# Altium integrated library battery.IntLib: 62 symbols
Pins are listed as number, name and electrical type; pins without a type are passive.

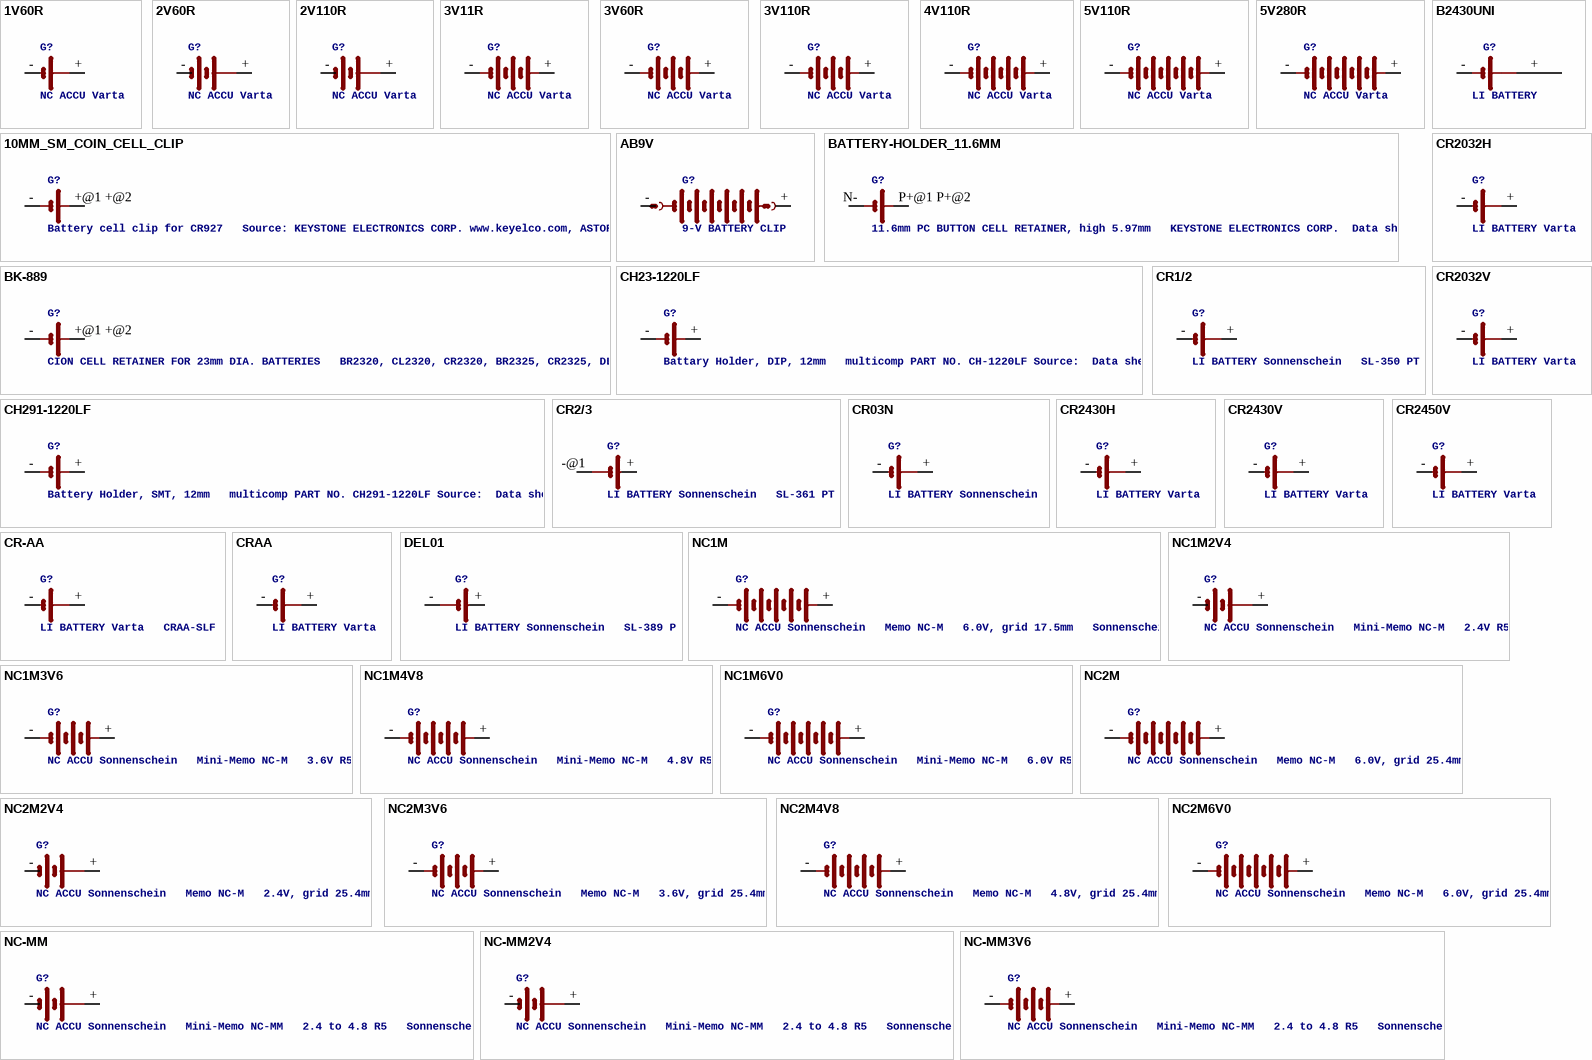
[diagram p0: symbols 1V60R to NC-MM3V6]

## 1V60R
designator G?, comment NC ACCU Varta
footprint 1V60R
pins: +, +@1, -

## 2V60R
designator G?, comment NC ACCU Varta
footprint 2V60R
pins: +, +@1, -

## 2V110R
designator G?, comment NC ACCU Varta
footprint 2V110R
pins: +, +@1, -

## 3V11R
designator G?, comment NC ACCU Varta
footprint 3V11R
pins: +, -

## 3V60R
designator G?, comment NC ACCU Varta
footprint 3V60R
pins: +, +@1, -

## 3V110R
designator G?, comment NC ACCU Varta
footprint 3V110R
pins: +, +@1, -

## 4V110R
designator G?, comment NC ACCU Varta
footprint 4V110R
pins: +, +@1, -

## 5V110R
designator G?, comment NC ACCU Varta
footprint 5V110R
pins: +, +@1, -

## 5V280R
designator G?, comment NC ACCU Varta
footprint 5V280R
pins: +, +@1, -

## 10MM_SM_COIN_CELL_CLIP
designator G?, comment Battery cell clip for CR927   Source: KEYSTONE ELECTRONICS CORP. www.keyelco.com, ASTORIA, N.Y. 11105-2017 PART ANME 10mm SM COIN CELl CLIP DWG NO. 3030
footprint 10MM_SM_COIN_CELL_CLIP
pins: +@1 +@2 +, -

## AB9V
designator G?, comment 9-V BATTERY CLIP
footprint AB9V
pins: +, -

## B2430UNI
designator G?, comment LI BATTERY
footprint B2430UNI
pins: +, +@1, +@2, +@3, +@4, -, -@1

## BATTERY-HOLDER_11.6MM
designator G?, comment 11.6mm PC BUTTON CELL RETAINER, high 5.97mm   KEYSTONE ELECTRONICS CORP.  Data sheet
MPN: 2997; MF: KEYSTONE; OC_FARNELL: 2293265
footprint CELL_RETAINER_11.6MM
pins: N- -, P+@1 P+@2 +

## BK-889
designator G?, comment CION CELL RETAINER FOR 23mm DIA. BATTERIES   BR2320, CL2320, CR2320, BR2325, CR2325, DL2325, BR2330, CL2330 Source: MEMORY PROTECTION DEVICES; Inc.  BK-889-datasheet.pdf
footprint BK-889
pins: +@1 +@2 +, -

## CH23-1220LF
designator G?, comment Battary Holder, DIP, 12mm   multicomp PART NO. CH-1220LF Source:  Data sheet
footprint CH23-1220LF
pins: +, -

## CH291-1220LF
designator G?, comment Battery Holder, SMT, 12mm   multicomp PART NO. CH291-1220LF Source:  Data sheet
footprint CH291-1220LF
pins: +, -

## CR1/2
designator G?, comment LI BATTERY Sonnenschein   SL-350 PT
footprint CR1/2
pins: +, +@1, -

## CR2/3
designator G?, comment LI BATTERY Sonnenschein   SL-361 PT
footprint CR2/3
pins: +, -@1 -, -@2 -@1

## CR03N
designator G?, comment LI BATTERY Sonnenschein
footprint CR03N
pins: +, +@1, -

## CR2032H
designator G?, comment LI BATTERY Varta
footprint CR2032H
pins: +, +@1, -

## CR2032V
designator G?, comment LI BATTERY Varta
footprint CR2032V
pins: +, +@1, -

## CR2430H
designator G?, comment LI BATTERY Varta
footprint CR2430H
pins: +, +@1, -

## CR2430V
designator G?, comment LI BATTERY Varta
footprint CR2430V
pins: +, +@1, -

## CR2450V
designator G?, comment LI BATTERY Varta
footprint CR2450V
pins: +, +@1, -

## CR-AA
designator G?, comment LI BATTERY Varta   CRAA-SLF
footprint CRAA
pins: +, +@1, -

## CRAA
designator G?, comment LI BATTERY Varta
footprint CRAA
pins: +, +@1, -

## DEL01
designator G?, comment LI BATTERY Sonnenschein   SL-389 P
footprint DEL01
pins: +, -, -@1

## NC1M
designator G?, comment NC ACCU Sonnenschein   Memo NC-M   6.0V, grid 17.5mm   Sonnenschein
footprint NC1M
pins: +, +@1, -

## NC1M2V4
designator G?, comment NC ACCU Sonnenschein   Mini-Memo NC-M   2.4V R5
footprint NC1M
pins: +, +@1, -

## NC1M3V6
designator G?, comment NC ACCU Sonnenschein   Mini-Memo NC-M   3.6V R5
footprint NC1M
pins: +, +@1, -

## NC1M4V8
designator G?, comment NC ACCU Sonnenschein   Mini-Memo NC-M   4.8V R5
footprint NC1M
pins: +, +@1, -

## NC1M6V0
designator G?, comment NC ACCU Sonnenschein   Mini-Memo NC-M   6.0V R5
footprint NC1M
pins: +, -

## NC2M
designator G?, comment NC ACCU Sonnenschein   Memo NC-M   6.0V, grid 25.4mm
footprint NC2M
pins: +, +@1, -

## NC2M2V4
designator G?, comment NC ACCU Sonnenschein   Memo NC-M   2.4V, grid 25.4mm
footprint NC2M
pins: +, +@1, -

## NC2M3V6
designator G?, comment NC ACCU Sonnenschein   Memo NC-M   3.6V, grid 25.4mm
footprint NC2M
pins: +, +@1, -

## NC2M4V8
designator G?, comment NC ACCU Sonnenschein   Memo NC-M   4.8V, grid 25.4mm
footprint NC2M
pins: +, +@1, -

## NC2M6V0
designator G?, comment NC ACCU Sonnenschein   Memo NC-M   6.0V, grid 25.4mm
footprint NC2M
pins: +, +@1, -

## NC-MM
designator G?, comment NC ACCU Sonnenschein   Mini-Memo NC-MM   2.4 to 4.8 R5   Sonnenschein
footprint NC-MM
pins: +, +@1, -

## NC-MM2V4
designator G?, comment NC ACCU Sonnenschein   Mini-Memo NC-MM   2.4 to 4.8 R5   Sonnenschein
footprint NC-MM
pins: +, +@1, -

## NC-MM3V6
designator G?, comment NC ACCU Sonnenschein   Mini-Memo NC-MM   2.4 to 4.8 R5   Sonnenschein
footprint NC-MM
pins: +, +@1, -

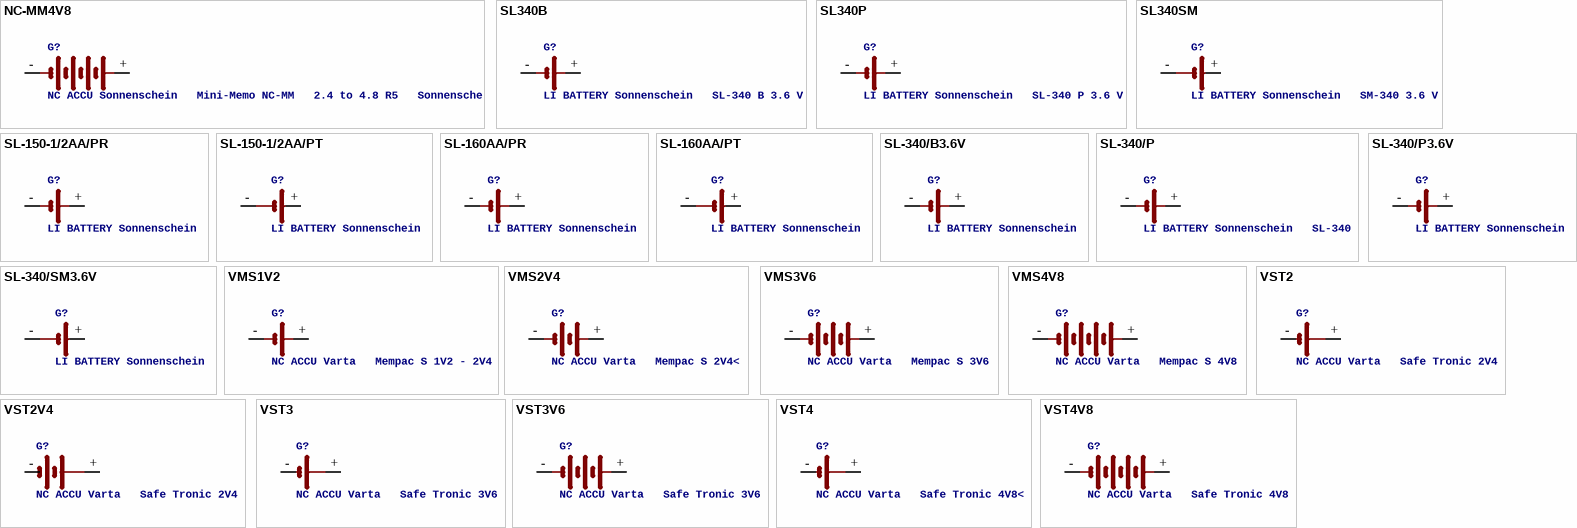
[diagram p1: symbols NC-MM4V8 to VST4V8]

## NC-MM4V8
designator G?, comment NC ACCU Sonnenschein   Mini-Memo NC-MM   2.4 to 4.8 R5   Sonnenschein
footprint NC-MM
pins: +, +@1, -

## SL340B
designator G?, comment LI BATTERY Sonnenschein   SL-340 B 3.6 V
footprint SL-340/B3.6V
pins: +, -

## SL340P
designator G?, comment LI BATTERY Sonnenschein   SL-340 P 3.6 V
footprint SL-340/P3.6V
pins: +, -

## SL340SM
designator G?, comment LI BATTERY Sonnenschein   SM-340 3.6 V
footprint SL-340/SM3.6V
pins: +, -, -@1

## SL-150-1/2AA/PR
designator G?, comment LI BATTERY Sonnenschein
footprint SL-150-1/2AA/PR
pins: +, -

## SL-150-1/2AA/PT
designator G?, comment LI BATTERY Sonnenschein
footprint SL-150-1/2AA/PT
pins: +, -, -@1

## SL-160AA/PR
designator G?, comment LI BATTERY Sonnenschein
footprint SL-160AA/PR
pins: +, -

## SL-160AA/PT
designator G?, comment LI BATTERY Sonnenschein
footprint SL-160AA/PT
pins: +, -, -@1

## SL-340/B3.6V
designator G?, comment LI BATTERY Sonnenschein
footprint SL-340/B3.6V
pins: +, -

## SL-340/P
designator G?, comment LI BATTERY Sonnenschein   SL-340
footprint BEL/P
pins: +, -

## SL-340/P3.6V
designator G?, comment LI BATTERY Sonnenschein
footprint SL-340/P3.6V
pins: +, -

## SL-340/SM3.6V
designator G?, comment LI BATTERY Sonnenschein
footprint SL-340/SM3.6V
pins: +, -, -@1

## VMS1V2
designator G?, comment NC ACCU Varta   Mempac S 1V2 - 2V4
footprint VMS1V2
pins: +, -

## VMS2V4
designator G?, comment NC ACCU Varta   Mempac S 2V4<
footprint VMS1V2
pins: +, -

## VMS3V6
designator G?, comment NC ACCU Varta   Mempac S 3V6
footprint VMS3V6
pins: +, -

## VMS4V8
designator G?, comment NC ACCU Varta   Mempac S 4V8
footprint VMS4V8
pins: +, -

## VST2
designator G?, comment NC ACCU Varta   Safe Tronic 2V4
footprint VST2
pins: +, +@1, -

## VST2V4
designator G?, comment NC ACCU Varta   Safe Tronic 2V4
footprint VST2
pins: +, +@1, -

## VST3
designator G?, comment NC ACCU Varta   Safe Tronic 3V6
footprint VST3
pins: +, +@1, -

## VST3V6
designator G?, comment NC ACCU Varta   Safe Tronic 3V6
footprint VST3
pins: +, +@1, -

## VST4
designator G?, comment NC ACCU Varta   Safe Tronic 4V8<
footprint VST4
pins: +, +@1, -

## VST4V8
designator G?, comment NC ACCU Varta   Safe Tronic 4V8
footprint VST4
pins: +, +@1, -